# EAGLE library part JST_SH_6 (library my_BeagleBone_Blue_R3)
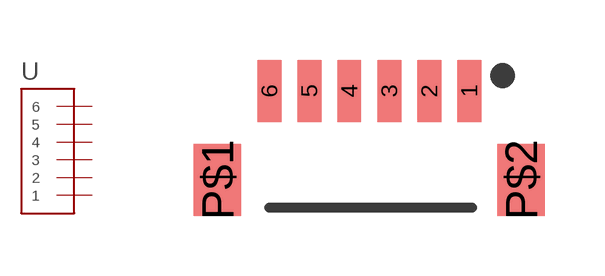
[diagram p18: symbol with the pads of JST_SH_6; footprint JST_SH_6]

Designator prefix -

## JST_SH_6  [JST_SH_6]
1  1
2  2
3  3
4  4
5  5
6  6

## Footprint JST_SH_6 (pad centres in mm)
smd 0.6 x 1.55: 1 5,0; 2 4,0; 3 3,0; 4 2,0; 5 1,0; 6 0,0
smd 1.2 x 1.8: P$1 -1.3,-2.225; P$2 6.3,-2.225